# EAGLE library part THAT1606 (library that-corp)
Balanced Line Driver
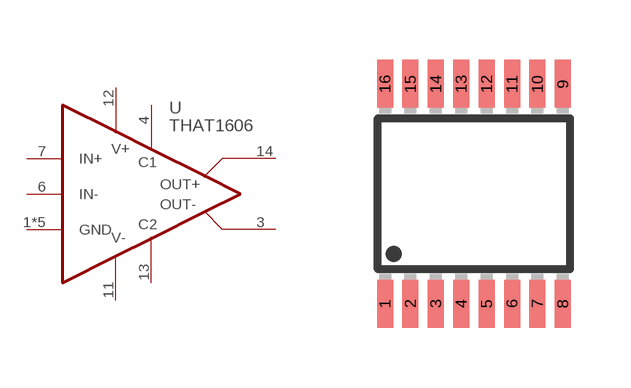
[diagram p15: symbol with the pads of QSOP16; footprint QSOP16]

Designator prefix U

## THAT1606Q16-U  [QSOP16]
1  GND  in
3  OUT-  out
4  CAP1  out
5  GND  in
6  IN-  in
7  IN+  in
8  GND  in
9  GND  in
11  V-  pwr
12  V+  pwr
13  CAP2  pas
14  OUT+  out
16  GND  in

## Footprint QSOP16 (pad centres in mm)
QSOP-16
smd 0.4 x 1.2: 1 -2.223,-2.75; 2 -1.588,-2.75; 3 -0.953,-2.75; 4 -0.318,-2.75; 5 0.318,-2.75; 6 0.953,-2.75; 7 1.588,-2.75; 8 2.223,-2.75; 9 2.223,2.75; 10 1.588,2.75; 11 0.953,2.75; 12 0.318,2.75; 13 -0.318,2.75; 14 -0.953,2.75; 15 -1.588,2.75; 16 -2.223,2.75